# EAGLE library part MAX232CSE (library MAX232CSE)
RS-232 Interface IC +5V-Powered, Multichannel RS-232 Drivers/Receivers Source: Datasheet <https://4donline.ihs.com/images/VipMasterIC/IC/RSEL/RSEL-S-A0001211545/RSEL-S-A0001210607-1.pdf?hkey=EF798316E3902B6ED9A73243A3159BB0>
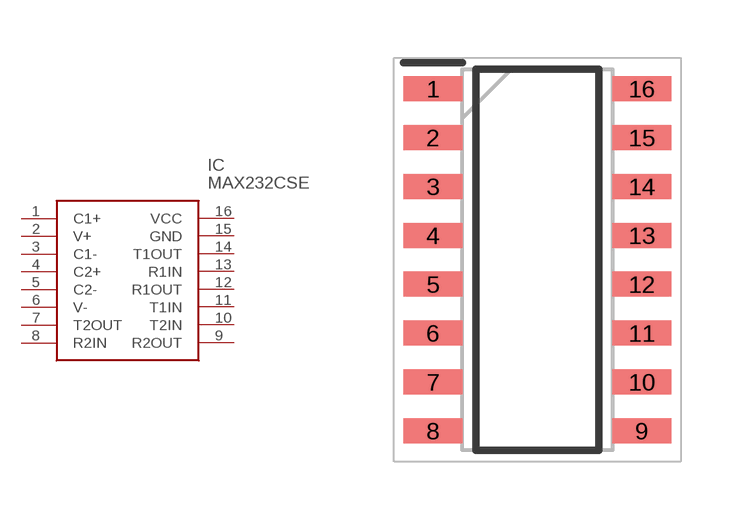
[diagram p0: symbol with the pads of SOIC127P600X175-16N; footprint SOIC127P600X175-16N]

Designator prefix IC

## MAX232CSE (Description: RS-232 Interface IC +5V-Powered, Multichannel RS-232 Drivers/Receivers; Height: 1.75mm; Manufacturer_Name: Maxim Integrated; Manufacturer_Part_Number: MAX232CSE; Mouser_Part_Number: N/A; Mouser_Price-Stock: https://www.mouser.co.uk/ProductDetail/Maxim-Integrated/MAX232CSE?qs=ZENAYvsrzLrMSSPYyHDhAg%3D%3D)  [SOIC127P600X175-16N]
1  C1+
2  V+
3  C1-
4  C2+
5  C2-
6  V-
7  T2OUT
8  R2IN
9  R2OUT
10  T2IN
11  T1IN
12  R1OUT
13  R1IN
14  T1OUT
15  GND
16  VCC

## Footprint SOIC127P600X175-16N (pad centres in mm)
16 Narrow SO
smd 1.525 x 0.65: 1 -2.712,4.445; 2 -2.712,3.175; 3 -2.712,1.905; 4 -2.712,0.635; 5 -2.712,-0.635; 6 -2.712,-1.905; 7 -2.712,-3.175; 8 -2.712,-4.445; 9 2.712,-4.445; 10 2.712,-3.175; 11 2.712,-1.905; 12 2.712,-0.635; 13 2.712,0.635; 14 2.712,1.905; 15 2.712,3.175; 16 2.712,4.445